# EAGLE library part PCM1808QPWRQ1 (library Deegou_IC)
Automotive 99dB SNR Stereo ADC With Single-Ended Inputs Source: Datasheet <http://www.ti.com/lit/gpn/pcm1808-q1>
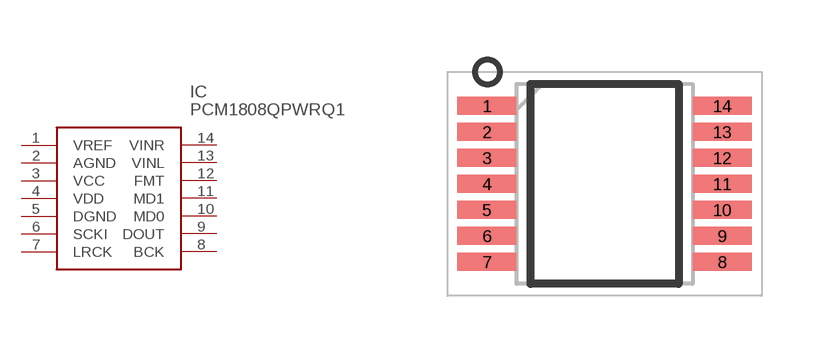
[diagram p36: symbol with the pads of SOP65P640X120-14N; footprint SOP65P640X120-14N]

Designator prefix IC

## PCM1808QPWRQ1 (DESCRIPTION: Automotive 99dB SNR Stereo ADC With Single-Ended Inputs; HEIGHT: 1.2mm; MANUFACTURER_NAME: Texas Instruments; MANUFACTURER_PART_NUMBER: PCM1808QPWRQ1; TI_STORE_PART_NUMBER: PCM1808QPWRQ1)  [SOP65P640X120-14N]
1  VREF  in
2  AGND  pwr
3  VCC  pwr
4  VDD  pwr
5  DGND  pwr
6  SCKI
7  LRCK
8  BCK
9  DOUT  out
10  MD0
11  MD1
12  FMT
13  VINL  in
14  VINR  in

## Footprint SOP65P640X120-14N (pad centres in mm)
PIC16F1825-I/ST
smd 1.475 x 0.45: 1 -2.938,1.95; 2 -2.938,1.3; 3 -2.938,0.65; 4 -2.938,0; 5 -2.938,-0.65; 6 -2.938,-1.3; 7 -2.938,-1.95; 8 2.938,-1.95; 9 2.938,-1.3; 10 2.938,-0.65; 11 2.938,0; 12 2.938,0.65; 13 2.938,1.3; 14 2.938,1.95